# Altium schematic symbol library Summer_Studio.SchLib: 38 symbols
Pins are listed as number, name and electrical type; pins without a type are passive.

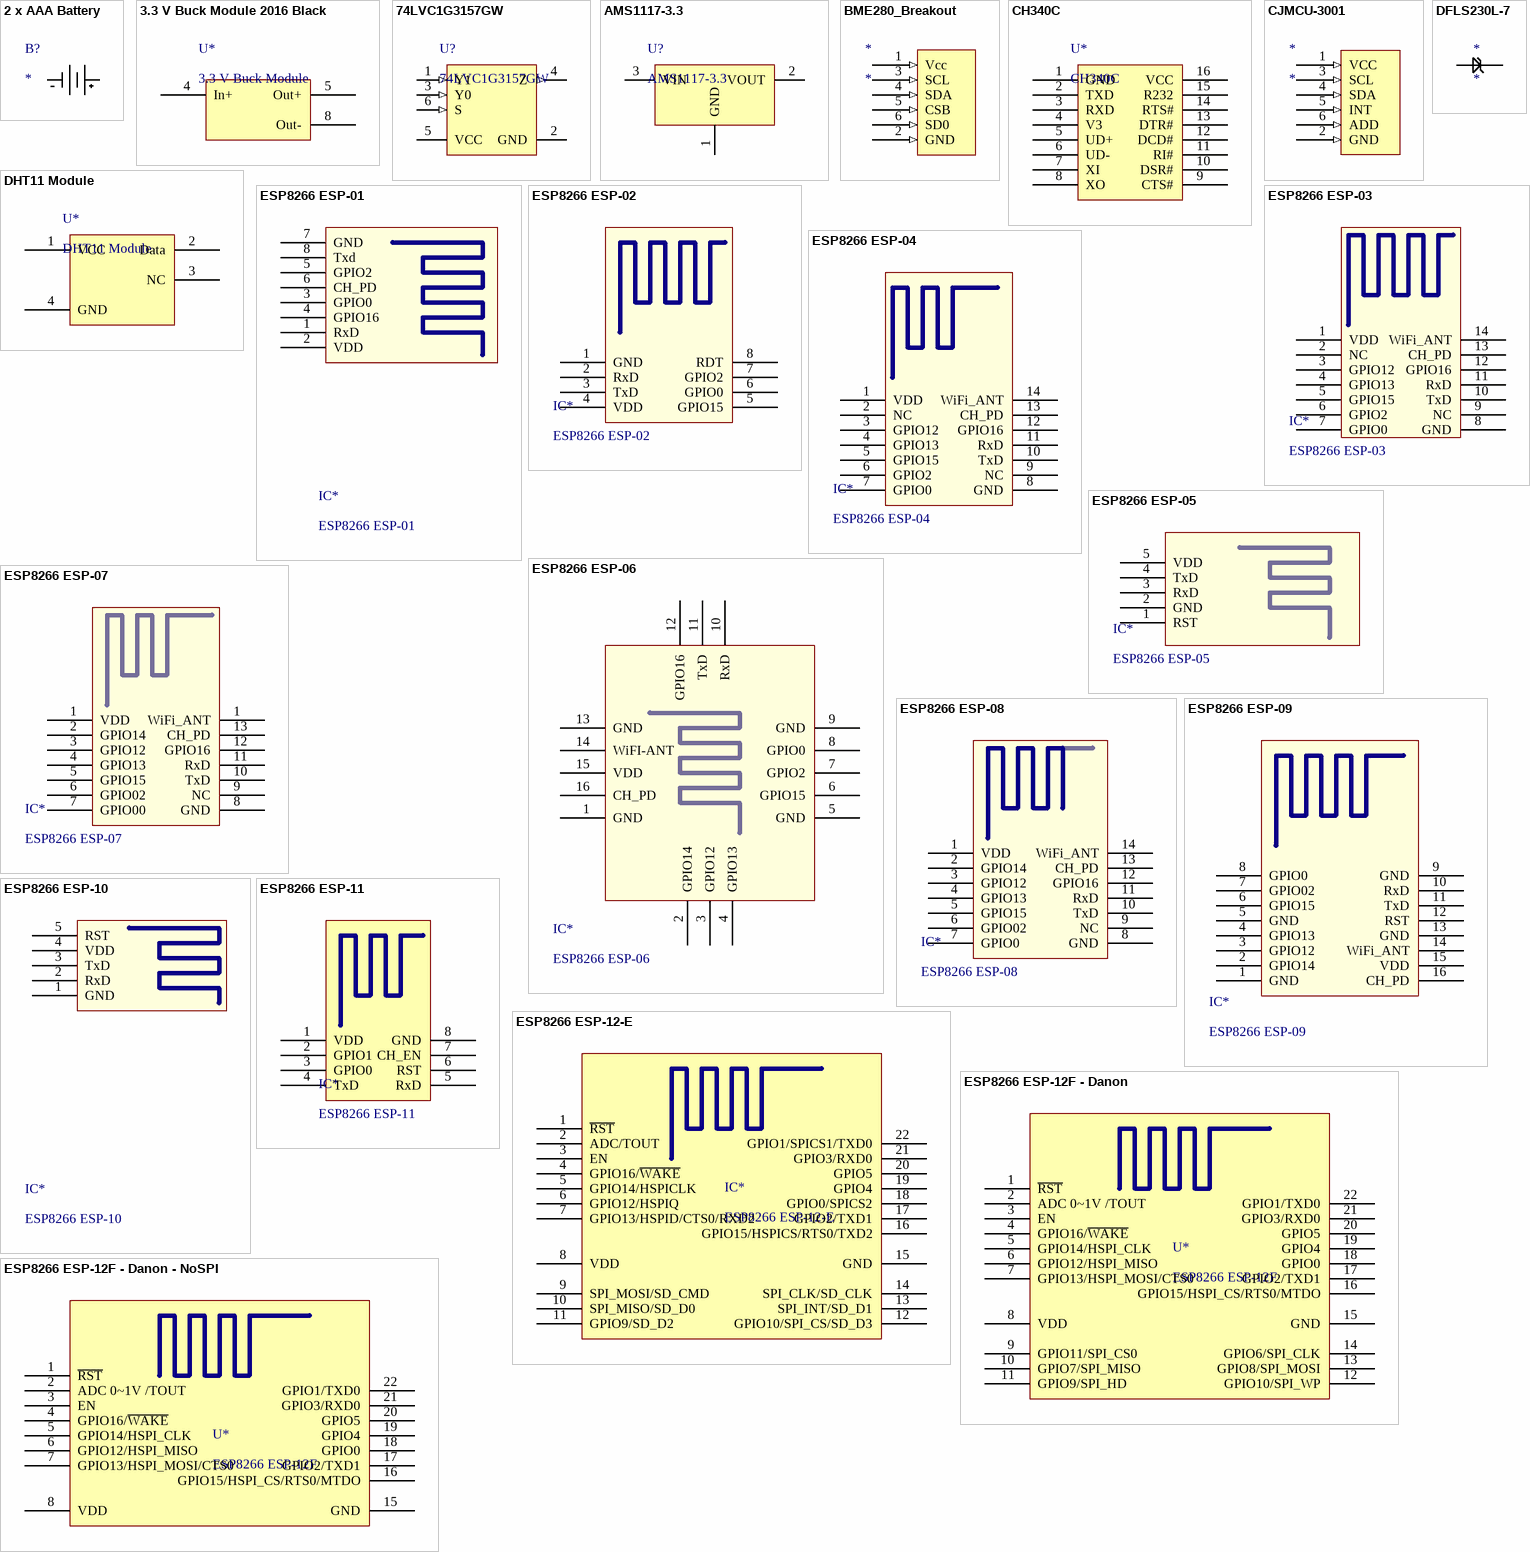
[diagram p0: symbols 2 x AAA Battery to ESP8266 ESP-12F - Danon - NoSPI]

## 2 x AAA Battery
designator B?
Imported; Manufacturer_Part_Number: 2468; Vendor: SILICON LABS; Built_By: EMA_UL_Team; C: Copyright (C) 2015 Accelerated Designs. All rights reserved; RefDes: RefDes; Type: DEV; Value: Value; Supplier 1: Digi-Key; Supplier Part Number 1: 36-2468-ND
footprint BAT_HLDR_2468_No_Mount_Holes
pins: 1, 2

## 3.3 V Buck Module 2016 Black
designator U*, comment 3.3 V Buck Module
footprint 3.3 V Buck Module 2016 Black
pins: 4 In+, 5 Out+, 8 Out-

## 74LVC1G3157GW
designator U?
ComponentLink1Description: Supplier URL; ComponentLink1URL: https://lcsc.com/product-detail/Others_Nexperia_74LVC1G3157GW_Nexperia-74LVC1G3157GW_C265126.html
footprint TSSOP-6__SOT363 (SOT363, 6-Leads, Body 2x1.3mm, Pitch 0.65mm, Lead Span 2.1mm, IPC Medium Density)
pins: 1 Y1 (in), 2 GND (power), 3 Y0 (in), 4 Z (out), 5 VCC (power), 6 S (in)

## AMS1117-3.3
designator U?
3.3V  3-Terminal Adjustable Positive Voltage Regulator; ComponentLink1Description: Supplier URL; ComponentLink1URL: https://lcsc.com/product-detail/Low-Dropout-Regulators-LDO_AMS_AMS1117-3-3_AMS1117-3-3_C6186.html
footprint SOT-223
pins: 1 GND, 2 VOUT, 3 VIN

## BME280_Breakout
designator *
I2C SPI BMP280 3.3V Digital Barometric Pressure Altitude Sensor; ComponentLink1Description: BME280 Alliexpress; ComponentLink1URL: https://www.aliexpress.com/item/32654011852.html?spm=a2g0o.productlist.0.0.611f7ab45VWneK&algo_pvid=3500a64d-3efe-476e-a7ed-508ec577367a&algo_expid=3500a64d-3efe-476e-a7ed-508ec577367a-0&btsid=a8d97c0f-78cc-4f3c-9aa6-8ebf541e6973&ws_ab_test=searchweb0_0,searchweb201602_7,searchweb201603_53
footprint BME280 Breakout (Aliexpress BME280 daughter board)
pins: 1 Vcc (in), 2 GND (in), 3 SCL (in) "Clock", 4 SDA (in) "Data", 5 CSB (in), 6 SD0 (in)

## CH340C
designator U*
ComponentLink1Description: Supplier URL; ComponentLink1URL: https://lcsc.com/product-detail/USB_CH340C_C84681.html
footprint SOP16_50Mil_PinPitch
pins: 1 GND, 2 TXD, 3 RXD, 4 V3, 5 UD+, 6 UD-, 7 XI, 8 XO, 9 CTS#, 10 DSR#, 11 RI#, 12 DCD#, 13 DTR#, 14 RTS#, 15 R232, 16 VCC

## CJMCU-3001
designator *
CJMCU-3001 OPT3001 Ambient Light Sensor Module I2C Human Eye Measuring Light Intensity Luxmeter; ComponentLink1Description: Amazon; ComponentLink1URL: https://www.amazon.com/CJMCU-3001-OPT3001-Measuring-Intensity-Luxmeter/dp/B07RYPWY53
footprint CJMCU-3001 (CJMCU-3001 OPT3001 Ambient Light Sensor Module I2C Human Eye Measuring Light Intensity Luxmeter)
pins: 1 VCC (in), 2 GND (in), 3 SCL (in), 4 SDA (in), 5 INT (in), 6 ADD (in)

## DFLS230L-7
designator *
footprint DFLS230L-7 (SOD, 2-Leads, Body 2.7x1.65mm)
pins: 1 3, 2

## DHT11 Module
designator U*
footprint DHT11 Module Flat
pins: 1 VCC, 2 Data, 3 NC, 4 GND

## ESP8266 ESP-01
designator IC*
footprint ESP8266 ESP-07 (ESP8266 ESP-01)
pins: 1 RxD, 2 VDD, 3 GPIO0, 4 GPIO16, 5 GPIO2, 6 CH_PD, 7 GND, 8 Txd

## ESP8266 ESP-02
designator IC*
footprint ESP8266 ESP-02
pins: 1 GND, 2 RxD, 3 TxD, 4 VDD, 5 GPIO15, 6 GPIO0, 7 GPIO2, 8 RDT

## ESP8266 ESP-03
designator IC*
footprint ESP8266 ESP-03
pins: 1 VDD, 2 NC, 3 GPIO12, 4 GPIO13, 5 GPIO15, 6 GPIO2, 7 GPIO0, 8 GND, 9 NC, 10 TxD, 11 RxD, 12 GPIO16, 13 CH_PD, 14 WiFi_ANT

## ESP8266 ESP-04
designator IC*
footprint ESP8266 ESP-04
pins: 1 VDD, 2 NC, 3 GPIO12, 4 GPIO13, 5 GPIO15, 6 GPIO2, 7 GPIO0, 8 GND, 9 NC, 10 TxD, 11 RxD, 12 GPIO16, 13 CH_PD, 14 WiFi_ANT

## ESP8266 ESP-05
designator IC*
footprint ESP8266 ESP-05
pins: 1 RST, 2 GND, 3 RxD, 4 TxD, 5 VDD

## ESP8266 ESP-06
designator IC*
footprint ESP8266 ESP-06
pins: 1 GND, 2 GPIO14, 3 GPIO12, 4 GPIO13, 5 GND, 6 GPIO15, 7 GPIO2, 8 GPIO0, 9 GND, 10 RxD, 11 TxD, 12 GPIO16, 13 GND, 14 WiFI-ANT, 15 VDD, 16 CH_PD

## ESP8266 ESP-07
designator IC*
footprint ESP8266 ESP-07 (ESP8266 ESP-01)
pins: 1 VDD (power), 1 WiFi_ANT, 2 GPIO14, 3 GPIO12, 4 GPIO13, 5 GPIO15, 6 GPIO02, 7 GPIO00, 8 GND, 9 NC, 10 TxD, 11 RxD, 12 GPIO16, 13 CH_PD

## ESP8266 ESP-08
designator IC*
footprint ESP8266 ESP-08
pins: 1 VDD (power), 2 GPIO14, 3 GPIO12, 4 GPIO13, 5 GPIO15, 6 GPIO02, 7 GPIO0, 8 GND, 9 NC, 10 TxD, 11 RxD, 12 GPIO16, 13 CH_PD, 14 WiFi_ANT

## ESP8266 ESP-09
designator IC*
footprint ESP8266 ESP-09
pins: 1 GND (power), 2 GPIO14, 3 GPIO12, 4 GPIO13, 5 GND (power), 6 GPIO15, 7 GPIO02, 8 GPIO0, 9 GND (power), 10 RxD, 11 TxD, 12 RST, 13 GND (power), 14 WiFi_ANT, 15 VDD (power), 16 CH_PD

## ESP8266 ESP-10
designator IC*
footprint ESP8266 ESP-10
pins: 1 GND, 2 RxD, 3 TxD, 4 VDD, 5 RST

## ESP8266 ESP-11
designator IC*
footprint ESP8266 ESP-11
pins: 1 VDD, 2 GPIO1, 3 GPIO0, 4 TxD, 5 RxD, 6 RST, 7 CH_EN, 8 GND

## ESP8266 ESP-12-E
designator IC*
footprint ESP8266 ESP-12-E
pins: 1 ~{RST} "Reset", 2 ADC/TOUT "ADC Input Or TOUT Output", 3 EN "Chip enable", 4 GPIO16/~{WAKE} "GPIO16 or Deep-Sleep Wakeup", 5 GPIO14/HSPICLK "GPIO14 or SPI CLK", 6 GPIO12/HSPIQ "GPIO12 or SPIQ", 7 GPIO13/HSPID/CTS0/RXD2 "GPIO13 or SPID", 8 VDD "Power supply", 9 SPI_MOSI/SD_CMD "GPIO14 or SPI CLK", 10 SPI_MISO/SD_D0 "GPIO12 or SPIQ", 11 GPIO9/SD_D2 "GPIO13 or SPID", 12 GPIO10/SPI_CS/SD_D3 "GPIO15 or SPICS", 13 SPI_INT/SD_D1 "GPIO2 or TX", 14 SPI_CLK/SD_CLK "GPIO0 or SPICS2", 15 GND "Power ground", 16 GPIO15/HSPICS/RTS0/TXD2 "GPIO15 or SPICS", 17 GPIO2/TXD1 "GPIO2 or TX", 18 GPIO0/SPICS2 "GPIO0 or SPICS2", 19 GPIO4 "GPIO5", 20 GPIO5 "GPIO4", 21 GPIO3/RXD0 "GPIO3 or UART RXD", 22 GPIO1/SPICS1/TXD0 "GPIO1 or UART TXD"

## ESP8266 ESP-12F - Danon
designator U*, comment ESP8266 ESP-12F
footprint ESP8266 ESP_12F - Danon (ESP8266 ESP-12)
pins: 1 ~{RST} "Reset", 2 ADC 0~1V /TOUT "ADC Input Or TOUT Output", 3 EN "Chip enable", 4 GPIO16/~{WAKE} "GPIO16 or Deep-Sleep Wakeup", 5 GPIO14/HSPI_CLK "GPIO14 or SPI CLK", 6 GPIO12/HSPI_MISO "GPIO12 or SPIQ", 7 GPIO13/HSPI_MOSI/CTS0 "GPIO13 or SPID", 8 VDD "Power supply", 9 GPIO11/SPI_CS0 "GPIO14 or SPI CLK", 10 GPIO7/SPI_MISO "GPIO12 or SPIQ", 11 GPIO9/SPI_HD "GPIO13 or SPID", 12 GPIO10/SPI_WP "GPIO15 or SPICS", 13 GPIO8/SPI_MOSI "GPIO2 or TX", 14 GPIO6/SPI_CLK "GPIO0 or SPICS2", 15 GND "Power ground", 16 GPIO15/HSPI_CS/RTS0/MTDO "GPIO15 or SPICS", 17 GPIO2/TXD1 "GPIO2 or TX", 18 GPIO0 "GPIO0 or SPICS2", 19 GPIO4 "GPIO5", 20 GPIO5 "GPIO4", 21 GPIO3/RXD0 "GPIO3 or UART RXD", 22 GPIO1/TXD0 "GPIO1 or UART TXD"

## ESP8266 ESP-12F - Danon - NoSPI
designator U*, comment ESP8266 ESP-12F
footprint ESP8266 ESP_12F - Danon NoSPI (ESP8266 ESP-12)
pins: 1 ~{RST} "Reset", 2 ADC 0~1V /TOUT "ADC Input Or TOUT Output", 3 EN "Chip enable", 4 GPIO16/~{WAKE} "GPIO16 or Deep-Sleep Wakeup", 5 GPIO14/HSPI_CLK "GPIO14 or SPI CLK", 6 GPIO12/HSPI_MISO "GPIO12 or SPIQ", 7 GPIO13/HSPI_MOSI/CTS0 "GPIO13 or SPID", 8 VDD "Power supply", 15 GND "Power ground", 16 GPIO15/HSPI_CS/RTS0/MTDO "GPIO15 or SPICS", 17 GPIO2/TXD1 "GPIO2 or TX", 18 GPIO0 "GPIO0 or SPICS2", 19 GPIO4 "GPIO5", 20 GPIO5 "GPIO4", 21 GPIO3/RXD0 "GPIO3 or UART RXD", 22 GPIO1/TXD0 "GPIO1 or UART TXD"

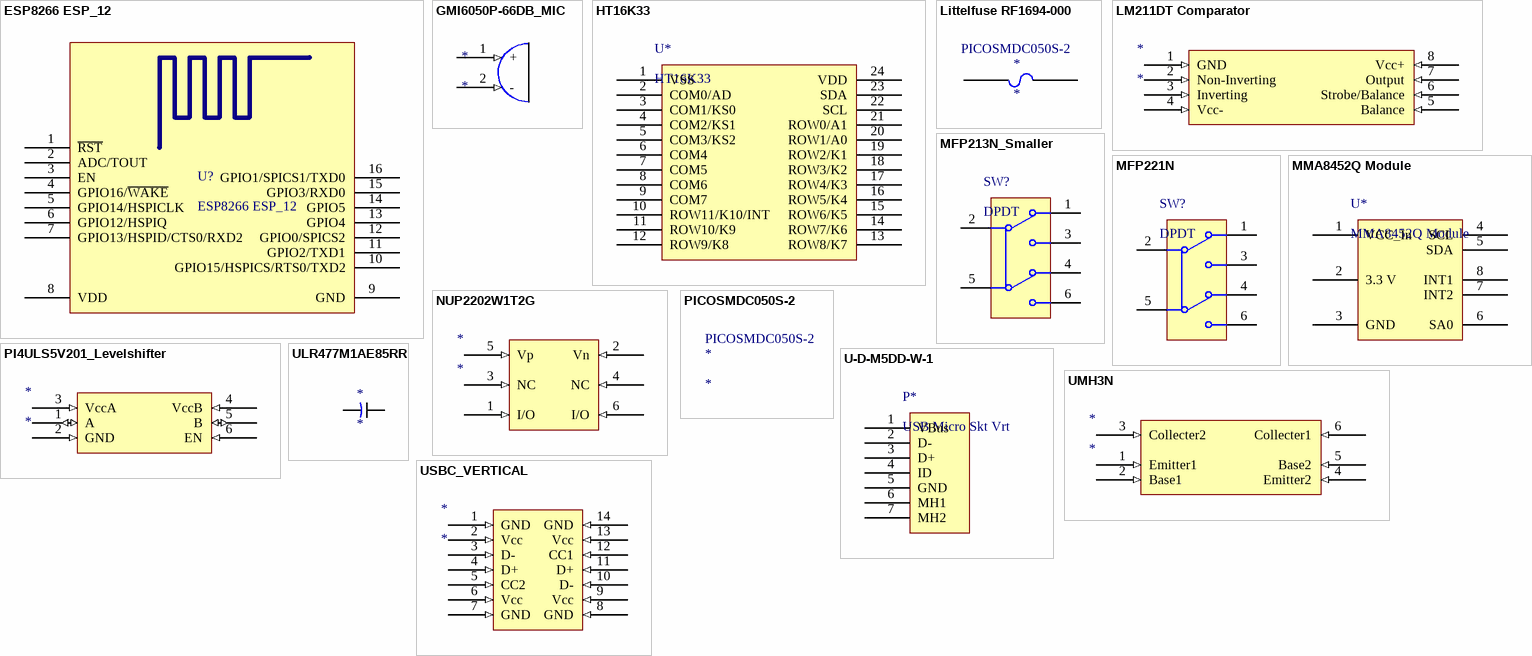
[diagram p1: symbols ESP8266 ESP_12 to USBC_VERTICAL]

## ESP8266 ESP_12
designator U?
ESP8266 ESP-12; IC: ESP8266-EX; Vendor: Ai-thinker; LatestReviewer: Zion Blue; Published: 14-Apr-2015; Publisher: Cynetik Group; LatestRevisionData: 14-Apr-2015; LatestRevisionNote: Include 3D body and Footprint
footprint ESP8266 ESP_12 (ESP8266 ESP-12)
pins: 1 ~{RST} "Reset", 2 ADC/TOUT "ADC Input Or TOUT Output", 3 EN "Chip enable", 4 GPIO16/~{WAKE} "GPIO16 or Deep-Sleep Wakeup", 5 GPIO14/HSPICLK "GPIO14 or SPI CLK", 6 GPIO12/HSPIQ "GPIO12 or SPIQ", 7 GPIO13/HSPID/CTS0/RXD2 "GPIO13 or SPID", 8 VDD "Power supply", 9 GND "Power ground", 10 GPIO15/HSPICS/RTS0/TXD2 "GPIO15 or SPICS", 11 GPIO2/TXD1 "GPIO2 or TX", 12 GPIO0/SPICS2 "GPIO0 or SPICS2", 13 GPIO4 "GPIO5", 14 GPIO5 "GPIO4", 15 GPIO3/RXD0 "GPIO3 or UART RXD", 16 GPIO1/SPICS1/TXD0 "GPIO1 or UART TXD"

## GMI6050P-66DB_MIC
designator *
footprint GMI6050P-66DB_Mic
pins: 1 + (in), 2 - (in)

## HT16K33
designator U*
ComponentLink1Description: Supplier URL; ComponentLink1URL: https://lcsc.com/product-detail/LED-Drivers_HT16K33_C93171.html
footprint MCHP-SOP-S24_N (SOP, 24-Leads, Body 15.698x7.506mm, Pitch 0.5mm, IPC Medium Density)
pins: 1 VSS, 2 COM0/AD, 3 COM1/KS0, 4 COM2/KS1, 5 COM3/KS2, 6 COM4, 7 COM5, 8 COM6, 9 COM7, 10 ROW11/K10/INT, 11 ROW10/K9, 12 ROW9/K8, 13 ROW8/K7, 14 ROW7/K6, 15 ROW6/K5, 16 ROW5/K4, 17 ROW4/K3, 18 ROW3/K2, 19 ROW2/K1, 20 ROW1/A0, 21 ROW0/A1, 22 SCL, 23 SDA, 24 VDD

## Littelfuse RF1694-000
designator *  Supplier Part Number 1: PICOSMDC050S-2
Supplier 1: Arrow
footprint Littelfuse RF1694-000
pins: 1, 2

## LM211DT Comparator
designator *
footprint LM211
pins: 1 GND (in), 2 Non-Inverting (in), 3 Inverting (in), 4 Vcc- (in), 5 Balance (in), 6 Strobe/Balance (in), 7 Output (in), 8 Vcc+ (in)

## MFP213N_Smaller
designator SW?, comment DPDT
ComponentLink1Description: Supplier URL; ComponentLink1URL: https://lcsc.com/product-detail/Toggle-Switches_Knitter-switch_MFP213N_Knitter-switch-MFP213N_C237066.html
footprint MFP213N_Smaller
pins: 1, 2, 3, 4, 5, 6

## MFP221N
designator SW?, comment DPDT
ComponentLink1Description: Supplier URL; ComponentLink1URL: https://lcsc.com/product-detail/Toggle-Switches_Knitter-switch_MFP221N_Knitter-switch-MFP221N_C237071.html
footprint MFP221N
pins: 1, 2, 3, 4, 5, 6

## MMA8452Q Module
designator U*
footprint MMA8452Q Module
pins: 1 VCC_In, 2 3.3 V, 3 GND, 4 SCL, 5 SDA, 6 SA0, 7 INT2, 8 INT1

## NUP2202W1T2G
designator *
footprint NUP2202W1T2G
pins: 1 I/O (in), 2 Vn (in), 3 NC (in), 4 NC (in), 5 Vp (in), 6 I/O (in)

## PI4ULS5V201_Levelshifter
designator *
footprint PI4ULS5V201TAE
pins: 1 A (io), 2 GND (in), 3 VccA (in), 4 VccB (in), 5 B (io), 6 EN (in)

## PICOSMDC050S-2
designator *  Supplier Part Number 1: PICOSMDC050S-2
PTC RESET FUSE 6V 500MA 0805; Manufacturer 1: Littelfuse; Max Current Rating: 100A; Trip Current: 1A; Time to Trip: 100ms; Approvals: UL,CSA,TUV; Supplier 1: Arrow; Manufacturer Part Number 1: PICOSMDC050S-2; RoHS: No; Category: PTC Resettable Fuses; Stock 1: 2820; Pricing 1: 1=0.44650, 10=0.42200, 25=0.41480, 100=0.30790, 250=0.27270, 500=0.24370, 1000=0.21720 (USD); Mount: Surface Mount; Case Code (Imperial): 0805; Case Code (Metric): 2012; Min Operating Temperature: -40°C; Max Operating Temperature: 85°C; Packaging: Tape and Reel; Hold Current: 500mA; Lead Free: Lead Free; ComponentLink1URL: http://www.farnell.com/datasheets/2282569.pdf?src-supplier=Farnell; ComponentLink1Description: http://www.farnell.com/datasheets/2282569.pdf?src-supplier=Farnell; ComponentLink2URL: https://www.littelfuse.com/~/media/electronics/product_specifications/resettable_ptcs/littelfuse_ptc_picosmdc050s_2_product_specification.pdf.pdf?src-supplier=Digi-Key; ComponentLink2Description: https://www.littelfuse.com/~/media/electronics/product_specifications/resettable_ptcs/littelfuse_ptc_picosmdc050s_2_product_specification.pdf.pdf?src-supplier=Digi-Key; ComponentLink3URL: http://www.littelfuse.com/~/media/electronics/product_specifications/resettable_ptcs/littelfuse_ptc_picosmdc050s_2_product_specification.pdf.pdf?src-supplier=Digi-Key; ComponentLink3Description: http://www.littelfuse.com/~/media/electronics/product_specifications/resettable_ptcs/littelfuse_ptc_picosmdc050s_2_product_specification.pdf.pdf?src-supplier=Digi-Key

## U-D-M5DD-W-1
designator P*, comment USB Micro Skt Vrt
ComponentLink1Description: Supplier URL; ComponentLink1URL: https://lcsc.com/product-detail/Micro-USB-Connectors_Korean-Hroparts-Elec-U-D-M5DD-W-1_C145795.html
footprint U-D-M5DD-W-1
pins: 1 VBus, 2 D-, 3 D+, 4 ID, 5 GND, 6 MH1, 7 MH2

## ULR477M1AE85RR
designator *
footprint ULR477M1AE85RR
pins: 1 4, 2 5

## UMH3N
designator *
footprint UMH3N (Dual Digital Transistors (NPN+NPN))
pins: 1 Emitter1 (in), 2 Base1 (in), 3 Collecter2 (in), 4 Emitter2 (in), 5 Base2 (in), 6 Collecter1 (in)

## USBC_VERTICAL
designator *
footprint USBC_Vertical
pins: 1 GND (in), 2 Vcc (in), 3 D- (in), 4 D+ (in), 5 CC2 (in), 6 Vcc (in), 7 GND (in), 8 GND (in), 9 Vcc (in), 10 D- (in), 11 D+ (in), 12 CC1 (in), 13 Vcc (in), 14 GND (in)